# EAGLE library part DS12E (library switch-dil)
DIL/CODE SWITCH
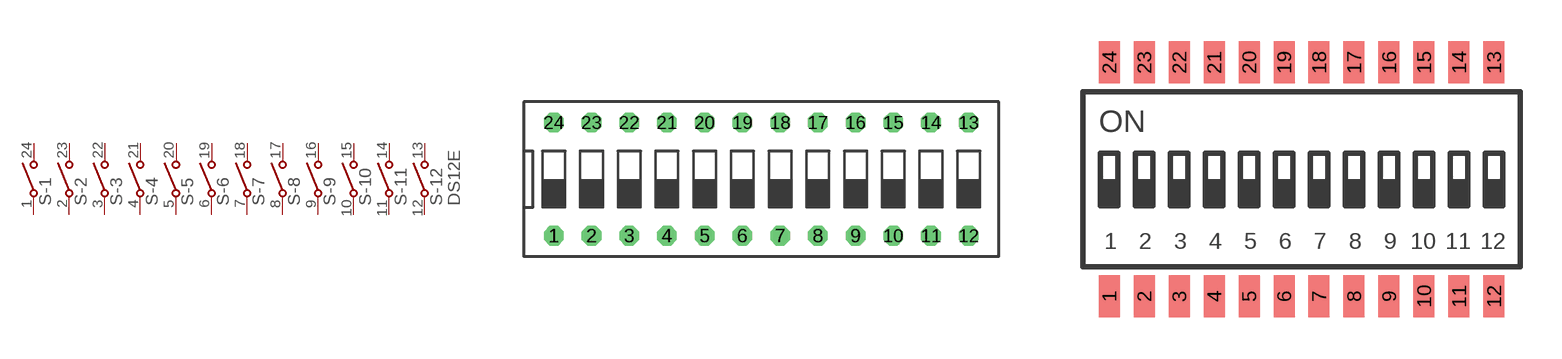
[diagram p17: symbol with the pads of DS-12; footprints DS-12, 218-12]

Designator prefix S; gates -1=S -2=S -3=S -4=S -5=S -6=S -7=S -8=S -9=S -10=S -11=S -12=S+V

## DS12E  [DS-12]
1  -1:1  pas
2  -2:1  pas
3  -3:1  pas
4  -4:1  pas
5  -5:1  pas
6  -6:1  pas
7  -7:1  pas
8  -8:1  pas
9  -9:1  pas
10  -10:1  pas
11  -11:1  pas
12  -12:1  pas
13  -12:2  pas
14  -11:2  pas
15  -10:2  pas
16  -9:2  pas
17  -8:2  pas
18  -7:2  pas
19  -6:2  pas
20  -5:2  pas
21  -4:2  pas
22  -3:2  pas
23  -2:2  pas
24  -1:2  pas

## DS12E-CT218-12  [218-12]
Pads as for DS-12

## DS12E-SDA12SK  [SDA12SK]
Pads as for DS-12

## DS12E-DA-12  [DA-12]
Pads as for DS-12

## Footprint DS-12 (pad centres in mm)
DIL/CODE SWITCH Mors distributor Buerklin, 17G568
drill 0.813 octagon: 1 -13.97,-3.81; 2 -11.43,-3.81; 3 -8.89,-3.81; 4 -6.35,-3.81; 5 -3.81,-3.81; 6 -1.27,-3.81; 7 1.27,-3.81; 8 3.81,-3.81; 9 6.35,-3.81; 10 8.89,-3.81; 11 11.43,-3.81; 12 13.97,-3.81; 13 13.97,3.81; 14 11.43,3.81; 15 8.89,3.81; 16 6.35,3.81; 17 3.81,3.81; 18 1.27,3.81; 19 -1.27,3.81; 20 -3.81,3.81; 21 -6.35,3.81; 22 -8.89,3.81; 23 -11.43,3.81; 24 -13.97,3.81

## Footprint 218-12 (pad centres in mm)
CTS SERIES 218LP - Gull Wing Terminal
smd 0.762 x 1.524: 1 -6.985,-4.245; 2 -5.715,-4.245; 3 -4.445,-4.245; 4 -3.175,-4.245; 5 -1.905,-4.245; 6 -0.635,-4.245; 7 0.635,-4.245; 8 1.905,-4.245; 9 3.175,-4.245; 10 4.445,-4.245; 11 5.715,-4.245; 12 6.985,-4.245; 13 6.985,4.245; 14 5.715,4.245; 15 4.445,4.245; 16 3.175,4.245; 17 1.905,4.245; 18 0.635,4.245; 19 -0.635,4.245; 20 -1.905,4.245; 21 -3.175,4.245; 22 -4.445,4.245; 23 -5.715,4.245; 24 -6.985,4.245

## Footprint SDA12SK (pad centres in mm)
C&K SDA Series
smd 1.397 x 2.032: 1 -13.97,-4.445; 2 -11.43,-4.445; 3 -8.89,-4.445; 4 -6.35,-4.445; 5 -3.81,-4.445; 6 -1.27,-4.445; 7 1.27,-4.445; 8 3.81,-4.445; 9 6.35,-4.445; 10 8.89,-4.445; 11 11.43,-4.445; 12 13.97,-4.445; 13 13.97,4.445; 14 11.43,4.445; 15 8.89,4.445; 16 6.35,4.445; 17 3.81,4.445; 18 1.27,4.445; 19 -1.27,4.445; 20 -3.81,4.445; 21 -6.35,4.445; 22 -8.89,4.445; 23 -11.43,4.445; 24 -13.97,4.445

## Footprint DA-12 (pad centres in mm)
DIL/CODE SWITCH Mors distributor Buerklin, 17G598
drill 0.813 octagon: 1 -13.97,-1.27; 2 -11.43,-1.27; 3 -8.89,-1.27; 4 -6.35,-1.27; 5 -3.81,-1.27; 6 -1.27,-1.27; 7 1.27,-1.27; 8 3.81,-1.27; 9 6.35,-1.27; 10 8.89,-1.27; 11 11.43,-1.27; 12 13.97,-1.27; 13 13.97,1.27; 14 11.43,1.27; 15 8.89,1.27; 16 6.35,1.27; 17 3.81,1.27; 18 1.27,1.27; 19 -1.27,1.27; 20 -3.81,1.27; 21 -6.35,1.27; 22 -8.89,1.27; 23 -11.43,1.27; 24 -13.97,1.27